# EAGLE library part EG2219 (library StarLiteLib)
SWITCH-DPDT
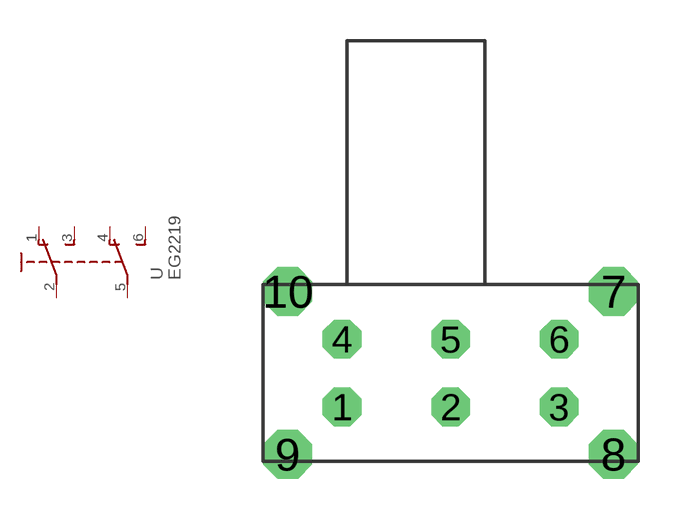
[diagram p9: symbol with the pads of DPDT157; footprint DPDT157]

Designator prefix -

## EG2219  [DPDT157]
1  O  pas
2  P  pas
3  S  pas
4  O1  pas
5  P1  pas
6  S1  pas

## Footprint DPDT157 (pad centres in mm)
E-Switch Comp EG2219 Distributor: Digi-Key <https://www.digikey.com>
drill 0.9 pad 1.422 octagon: 1 -4,-1.25; 2 0,-1.25; 3 4,-1.25; 4 -4,1.25; 5 0,1.25; 6 4,1.25
drill 1.2 octagon: 7 6,3; 8 6,-3; 9 -6,-3; 10 -6,3